# EAGLE library part G2R2A (library relay)
RELAY 2 x norm. open, Omron
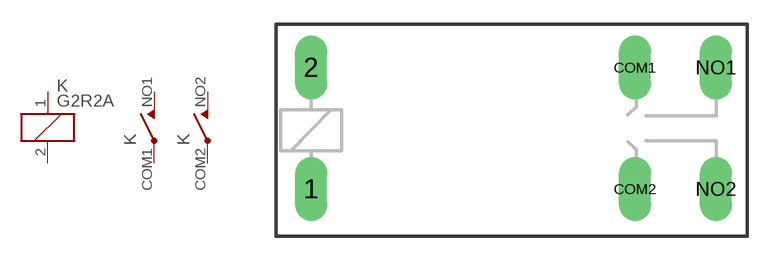
[diagram p20: symbol with the pads of G2R2A; footprint G2R2A]

Designator prefix K; gates C=K -A=S -B=S

## G2R2A  [G2R2A]
1  C:1  pas
2  C:2  pas
COM1  -A:COM  pas
COM2  -B:COM  pas
NO1  -A:NO  pas
NO2  -B:NO  pas

## Footprint G2R2A (pad centres in mm)
RELAY 2 x norm. open, Omron
drill 1.321 long: 1 -2.54,-3.683; 2 -2.54,3.81; COM1 17.45,3.81; COM2 17.45,-3.683; NO1 22.454,3.81; NO2 22.454,-3.683